# Altium schematic symbol library DiscreteSemiconductors.SchLib: 30 symbols
Pins are listed as number, name and electrical type; pins without a type are passive.

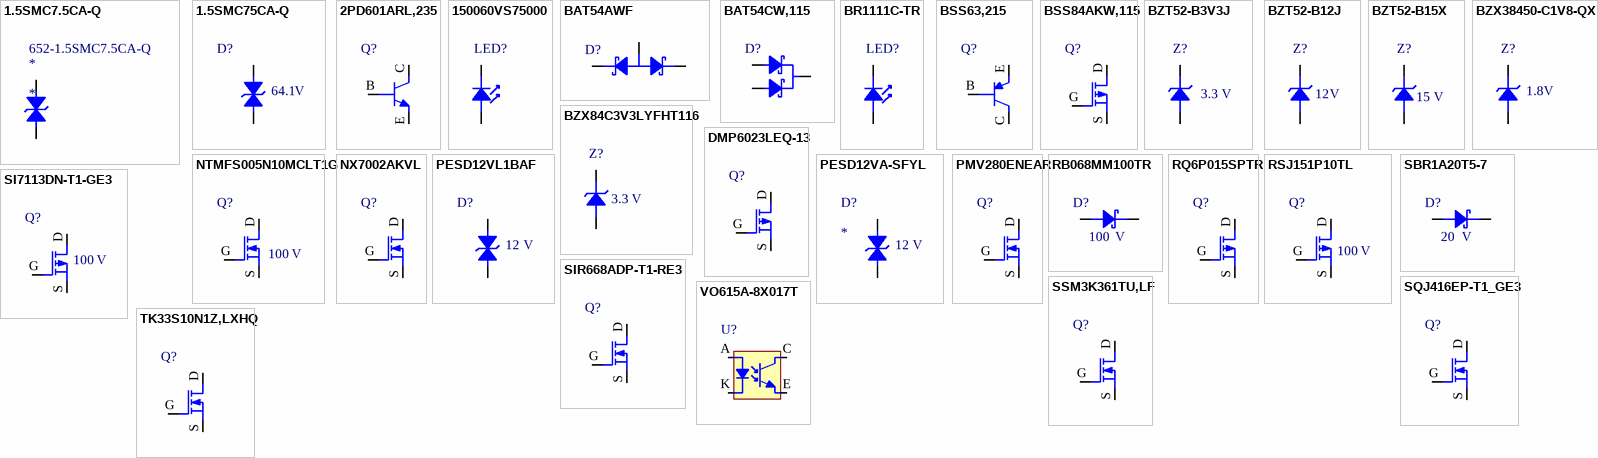
[diagram p0: symbols 1.5SMC7.5CA-Q to VO615A-8X017T]

## 1.5SMC7.5CA-Q
designator *  Supplier Part Number 1: 652-1.5SMC7.5CA-Q
Diode TVS Single Bi-Directional 6.4V 1.5kW 2-Pin DO-214AB T/R; Manufacturer: Bourns; Manufacturer Part Number: 1.5SMC7.5CA-Q; Supplier 1: Mouser; RoHS: Yes; Category: TVS Diodes; Stock 1: 11955; Pricing 1: 1=0.88000, 10=0.77700, 50=0.77700, 100=0.59600, 500=0.47100, 1000=0.37700, 3000=0.34100, 6000=0.31000, 9000=0.29900, 10000=0.29900 (USD)
pins: A, K

## 1.5SMC75CA-Q
designator D?  value 64.1  Units: V  (hidden comment: *)
Diode TVS Single Bi-Directional 64.1V 1.5kW 2-Pin DO-214AB T/R; Manufacturer: Bourns; Manufacturer Part Number: 1.5SMC75CA-Q; Supplier 1: Mouser; RoHS: Yes; Category: TVS Diodes; Stock 1: 11690; Pricing 1: 1=0.88000, 10=0.77700, 50=0.77700, 100=0.59600, 500=0.47100, 1000=0.37700, 3000=0.34100, 6000=0.31000, 9000=0.29900, 10000=0.29900 (USD)
footprint SMC-DO-214AB-BOURNS-BIDIRECTIONAL
pins: A1, A2

## 2PD601ARL,235
designator Q?  (value not drawn)
2PD601ARL; 2PD601ASL - 50 V, 100 mA NPN general-purpose transistors; Manufacturer: NXP Semiconductors; Manufacturer Part Number: 2PD601ARL,235; Max Power Dissipation: 250mW; Collector Emitter Voltage (VCEO): 250mV; Max Collector Current: 100mA; Collector Base Voltage (VCBO): 60V; Transition Frequency: 100MHz; Collector Emitter Breakdown Voltage: 50V; Emitter Base Voltage (VEBO): 6V; Value: 50; Supplier 1: Future Electronics; RoHS: Yes; Category: BJTs; Mount: Surface Mount; Case/Package: TO-236-3; Number of Pins: 3; Contact Plating: Tin; Min Operating Temperature: -55°C; Max Operating Temperature: 150°C; Packaging: Tape and Reel; Package Quantity: 10000; Polarity: NPN; Series: -; Collector-emitter Voltage-Max: 250mV; Radiation Hardening: No; RoHS Compliant: Yes; ComponentLink1URL: https://datasheet.ciiva.com/16285/2pd601axl-112998-16285410.pdf?src-supplier=Mouser; ComponentLink1Description: https://datasheet.ciiva.com/16285/2pd601axl-112998-16285410.pdf?src-supplier=Mouser; ComponentLink2URL: https://datasheet.ciiva.com/16614/2pd601axl-16614728.pdf?src-supplier=Avnet+Europe; ComponentLink2Description: https://datasheet.ciiva.com/16614/2pd601axl-16614728.pdf?src-supplier=Avnet+Europe; ComponentLink3URL: https://datasheet.ciiva.com/973/2pd601axl-973162.pdf?src-supplier=Digi-Key; ComponentLink3Description: https://datasheet.ciiva.com/973/2pd601axl-973162.pdf?src-supplier=Digi-Key; ComponentLink4URL: https://datasheet.ciiva.com/11204/2pd601axl-11204075.pdf?src-supplier=Avnet; ComponentLink4Description: https://datasheet.ciiva.com/11204/2pd601axl-11204075.pdf?src-supplier=Avnet; Supplier Part Number 1: 2PD601ARL,235; Units: V
footprint SOT95P230X110-3N-SOT23-3-NEXPERIA (SOT23, 3-Leads, Body 2.90x2.30mm, Pitch 0.95mm, IPC Medium Density); pin to pad B>1 C>3 E>2
pins: B, C, E

## 150060VS75000
designator LED?  (value not drawn)
Led, Green, 570 Nm, 2 V, 30 Ma, 40 Mcd Rohs Compliant: Yes; Manufacturer: Wurth Electronics; Manufacturer Part Number: 150060VS75000; Luminous Intensity: 40mcd; Viewing Angle: 140°; Forward Voltage: 2V; Wavelength: 570nm; Lens Style: Clear,Rectangular; Forward Current: 30mA; Test Current: 20mA; Supplier 1: RSComponents; RoHS: Yes; Category: LEDs; Stock 1: 2200; Pricing 1: 100=0.13300, 500=0.10300, 1000=0.09800, 2000=0.09200, 4000=0.08800 (USD); Mount: Surface Mount; Case/Package: 0603; Number of Pins: 2; Color: Green; Case Code (Metric): 1608; Case Code (Imperial): 0603; Min Operating Temperature: -40°C; Max Operating Temperature: 85°C; Package Quantity: 1; Packaging: Tape and Reel; Dominant Wavelength: 570nm; Length: 1.6mm; Width: 0.8mm; Height: 0.7mm; REACH SVHC: Unknown; RoHS Compliant: Yes; ComponentLink1URL: https://datasheet.ciiva.com/29562/150060vs75000-29562919.pdf?src-supplier=Digi-Key; ComponentLink1Description: https://datasheet.ciiva.com/29562/150060vs75000-29562919.pdf?src-supplier=Digi-Key
footprint DIOC1608X08N-0603-LED-WURTH (Chip Diode, 2-Leads, Body 1.60x0.80mm, IPC Medium Density. Based in 150060VS75000); pin to pad A>2 K>1
pins: A, K

## BAT54AWF
designator D?  (value not drawn)
BAT54AW/SOT323/SC-70; Manufacturer: Nexperia; Manufacturer Part Number: BAT54AWF; Value: 25; Units: V; Type: Diode; Supplier 1: Arrow Electronics; RoHS: Yes; Category: Diodes; Stock 1: 64149; Pricing 1: 1=0.08810, 10=0.04580, 25=0.04530, 100=0.02440, 250=0.02410, 500=0.02100, 1000=0.01600, 3000=0.01580, 6000=0.01560, 15000=0.01300, 30000=0.01290 (USD); RoHS Compliant: No; Package: SOT323
footprint SOT323-NEXPERIA (Based off BAT54AWF); pin to pad A>3 K1>1 K2>2
pins: A, K1, K2

## BAT54CW,115
designator D?  (value not drawn)
VR=30V IF=200mA 10pF P=200mW 2; Manufacturer: Nexperia; Manufacturer Part Number: BAT54CW,115; Value: 30; Units: V; Supplier 1: RSComponents; RoHS: Yes; Category: Rectifier Diodes; Stock 1: 16550; Pricing 1: 50=0.22500, 500=0.09000, 1000=0.06000, 2000=0.05600, 4000=0.04600 (USD); RoHS Compliant: Yes; ComponentLink1URL: http://www.farnell.com/datasheets/1679676.pdf?src-supplier=Farnell; ComponentLink1Description: http://www.farnell.com/datasheets/1679676.pdf?src-supplier=Farnell; ComponentLink2URL: https://assets.nexperia.com/documents/data-sheet/BAT54W_SER.pdf?src-supplier=Digi-Key; ComponentLink2Description: https://assets.nexperia.com/documents/data-sheet/BAT54W_SER.pdf?src-supplier=Digi-Key
footprint SOT323-NEXPERIA (Based off BAT54AWF); pin to pad A1>1 A2>2 K>3
pins: A1, A2, K

## BR1111C-TR
designator LED?  (value not drawn)
LED Low-Power Uni-Color Red 660nm 1.7V Automotive 2-Pin Chip 0603(1608Metric) T/R; Manufacturer: Stanley Electric; Manufacturer Part Number: BR1111C-TR; Lens Color: White; Shape: Rectangular; Number of Terminals/Pins: 2; Viewing Angle: 141°; Luminous Intensity: 11.7mcd; Forward Voltage: 2.3V; Lens Style: Flat,Colorless,MILKY WHITE; Forward Current: 25mA; Dominant Wavelength: 647nm; Test Current: 10mA; Lens Transparency: Diffused; Number of Elements: 1; Power Dissipation: 57.5mW; Reverse Voltage: 4V; Lens Size: 0.8mm; Supplier 1: Digi-Key; RoHS: Yes; Category: LEDs; Stock 1: 213150; Pricing 1: 1=0.39000, 10=0.25600, 100=0.17070, 500=0.11804, 1000=0.09837, 2000=0.08853 (USD); Mount: Surface Mount; Case/Package: SMD/SMT; Number of Pins: 2; Color: Red; Case Code (Metric): 1608; Case Code (Imperial): 0603; Min Operating Temperature: -30°C; Max Operating Temperature: 85°C; Packaging: Tape and Reel; Wavelength: 660nm; Package Quantity: 1; Series: 1111C; Length: 1.6mm; Width: 0.8mm; Height: 0.8mm; Depth: 0.8mm; Radiation Hardening: No; Lead Free: Lead Free; RoHS Compliant: Yes; ComponentLink1URL: https://datasheet.ciiva.com/19475/1845611-19475117.pdf?src-supplier=Jameco; ComponentLink1Description: https://datasheet.ciiva.com/19475/1845611-19475117.pdf?src-supplier=Jameco; ComponentLink2URL: https://datasheet.ciiva.com/15193/getdatasheetpartid-203327-15193245.pdf?src-supplier=Verical; ComponentLink2Description: https://datasheet.ciiva.com/15193/getdatasheetpartid-203327-15193245.pdf?src-supplier=Verical
footprint STANLEY-1608-LED
pins: A, K

## BSS63,215
designator Q?  (value not drawn)
TRANS PNP 100V 0.1A SOT23; Manufacturer: Nexperia; Manufacturer Part Number: BSS63,215; Value: 100; Units: V; Type: Transistor; Supplier 1: Avnet; RoHS: Yes; Category: BJTs; Stock 1: 64000; Pricing 1: 15528=0.02254, 16000=0.02206, 32000=0.02157, 78000=0.02109, 160000=0.02061, 780000=0.02013, 1600000=0.01964 (USD); RoHS Compliant: Yes; ComponentLink1URL: https://assets.nexperia.com/documents/data-sheet/BSS63.pdf?src-supplier=Digi-Key; ComponentLink1Description: https://assets.nexperia.com/documents/data-sheet/BSS63.pdf?src-supplier=Digi-Key
footprint SOT95P230X110-3N-SOT23-3-NEXPERIA (SOT23, 3-Leads, Body 2.90x2.30mm, Pitch 0.95mm, IPC Medium Density); pin to pad B>1 C>3 E>2
pins: B, C, E

## BSS84AKW,115
designator Q?  (value not drawn)
PMOS VDS=50V VGS=±20V ID=150mA P=260mW; Manufacturer: Nexperia; Manufacturer Part Number: BSS84AKW,115; Value: 50; Units: V; Type: MOSFET; Supplier 1: RSComponents; RoHS: Yes; Category: MOSFETs; Stock 1: 1300; Pricing 1: 100=0.15300, 300=0.14700, 600=0.11100, 1200=0.08400, 2400=0.07900 (USD); RoHS Compliant: Yes; ComponentLink1URL: http://www.farnell.com/datasheets/1443359.pdf?src-supplier=Farnell; ComponentLink1Description: http://www.farnell.com/datasheets/1443359.pdf?src-supplier=Farnell; ComponentLink2URL: https://assets.nexperia.com/documents/data-sheet/BSS84AKW.pdf?src-supplier=Digi-Key; ComponentLink2Description: https://assets.nexperia.com/documents/data-sheet/BSS84AKW.pdf?src-supplier=Digi-Key; ComponentLink3URL: http://www.farnell.com/datasheets/1443359.pdf?src-supplier=Newark; ComponentLink3Description: http://www.farnell.com/datasheets/1443359.pdf?src-supplier=Newark; Package: SOT323
footprint SOT323-NEXPERIA (Based off BAT54AWF); pin to pad D>3 G>1 S>2
pins: D, G, S

## BZT52-B3V3J
designator Z?  value 3.3  Units: V  (hidden comment: *)
BZT52-B3V3/SOD123/SOD2; Manufacturer: Nexperia; Manufacturer Part Number: BZT52-B3V3J; Supplier 1: Arrow Electronics; RoHS: No; Category: Zener Diodes; Stock 1: 30000; Pricing 1: 10000=0.01990, 20000=0.01870 (USD); Type: Diode
footprint BZT52-B3V3J
pins: A, K

## BZT52-B12J
designator Z?  value 12  Units: V  (hidden comment: *)
BZT52-B12/SOD123/SOD2; Manufacturer: Nexperia; Manufacturer Part Number: BZT52-B12J; Supplier 1: Digi-Key; RoHS: Yes; Category: Zener Diodes; Stock 1: 13784; Pricing 1: 1=0.24000, 10=0.19600, 100=0.10380, 500=0.06832, 1000=0.04645, 2000=0.04190, 5000=0.03643 (USD)
footprint BZT52-B3V3J
pins: A, K

## BZT52-B15X
designator Z?  value 15  Units: V  (hidden comment: *)
BZT52-B15/SOD123/SOD2; Manufacturer: Nexperia; Manufacturer Part Number: BZT52-B15X; Supplier 1: Newark; RoHS: No; Category: Zener Diodes; Stock 1: 5; Pricing 1: 5=0.27300, 10=0.18800, 25=0.15300, 50=0.11600, 100=0.08100, 250=0.07300, 500=0.06500, 1000=0.05700 (USD); RoHS Compliant: Yes
footprint BZT52-B3V3J
pins: A, K

## BZX84C3V3LYFHT116
designator Z?  value 3.3  Units: V  (hidden comment: *)
Diode Zener Single 3.3V 250mW 3-Pin SOT-23 Emboss T/R; Manufacturer: Rohm; Manufacturer Part Number: BZX84C3V3LYFHT116; Supplier 1: RSComponents; RoHS: No; Stock 1: 2900; Pricing 1: 100=0.10300, 200=0.10100, 300=0.09300, 500=0.09100, 1000=0.08900 (GBP); Type: Diode
footprint SOT23127P600-8N-SOT23-3-ROHM; pin to pad A>1 K>3
pins: A, K

## BZX38450-C1V8-QX
designator Z?  value 1.8  Units: V  (hidden comment: *)
Zener Diode Single 1.8V 5% 100Ohm 300mW 2-Pin SOD-323 T/R; Manufacturer: Nexperia; Manufacturer Part Number: BZX38450-C1V8-QX; Supplier 1: Arrow Electronics; RoHS: No; Stock 1: 36000; Pricing 1: 1=0.19230, 10=0.15670, 25=0.15500, 50=0.09310, 100=0.05620, 250=0.05560, 500=0.04560, 1000=0.03440, 3000=0.02920, 6000=0.02890, 15000=0.02630, 30000=0.02480 (USD); Category: Zener
footprint NEXPERIA-SC-76-SOD323
pins: A, K

## DMP6023LEQ-13
designator Q?  (value not drawn)
Enhancement Mode MOSFET P-Channel 60V 7A 3-Pin SOT-223 T/R; Manufacturer: Diodes; Manufacturer Part Number: DMP6023LEQ-13; Value: 60; Units: V; Supplier 1: Mouser; RoHS: Yes; Stock 1: 1514; Pricing 1: 1=0.95000, 10=0.85400, 50=0.85400, 100=0.66600, 1000=0.43400, 10000=0.37600 (USD); RoHS Compliant: Yes; Category: MOSFETs
footprint SOT230P700X165-4N-SOT223-DIODES-INC (SOT223, 4-Leads, Body 6.50x7.00mm (avg), Pitch 2.30mm, IPC Medium Density); pin to pad D>2+4 G>1 S>3
pins: D, G, S

## NTMFS005N10MCLT1G
designator Q?  value 100  Units: V  (hidden comment: *)
Transistor Mosfet N Channel 100V 105A 5-Pin DFN T/R; Manufacturer: ON Semiconductor; Manufacturer Part Number: NTMFS005N10MCLT1G; Supplier 1: Newark; RoHS: Yes; Category: MOSFETs; Stock 1: 385; Pricing 1: 5=1.80000, 10=1.63000, 100=1.27000 (USD)
footprint SO-8FL-onsemi; pin to pad D>5 G>4 S>1+2+3
pins: D, G, S

## NX7002AKVL
designator Q?  (value not drawn)
MOSFET NX7002AK/TO-236AB/REEL; Manufacturer: Nexperia; Manufacturer Part Number: NX7002AKVL; Value: 60; Units: V; Supplier 1: Avnet; RoHS: Yes; Category: MOSFETs; Stock 1: 30000; Pricing 1: 10000=0.03328, 20000=0.03370, 40000=0.03266, 60000=0.03162, 80000=0.03058, 100000=0.02954, 1000000=0.02850 (USD); RoHS Compliant: Yes; ComponentLink1URL: https://www.mouser.com/ds/2/302/NX7002AK-268849.pdf?src-supplier=Mouser; ComponentLink1Description: https://www.mouser.com/ds/2/302/NX7002AK-268849.pdf?src-supplier=Mouser; ComponentLink2URL: https://assets.nexperia.com/documents/data-sheet/NX7002AK.pdf?src-supplier=Digi-Key; ComponentLink2Description: https://assets.nexperia.com/documents/data-sheet/NX7002AK.pdf?src-supplier=Digi-Key
footprint SOT95P230X110-3N-SOT23-3-NEXPERIA (SOT23, 3-Leads, Body 2.90x2.30mm, Pitch 0.95mm, IPC Medium Density); pin to pad D>3 G>1 S>2
pins: D, G, S

## PESD12VA-SFYL
designator D?  value 12  Units: V
PESD12VA-SF - Ultra small 12 V ESD protection device; Manufacturer: Nexperia; Manufacturer Part Number: PESD12VA-SFYL; Supplier 1: Arrow Electronics; RoHS: Yes; Category: TVS Diodes; Stock 1: 558000; Pricing 1: 45000=0.05450, 72000=0.05400, 90000=0.05350, 99000=0.05290, 225000=0.05240, 450000=0.05190 (USD)
pins: A, K

## PESD12VL1BAF
designator D?  value 12  Units: V  (hidden comment: *)
PESD12VL1BA/SOD323/SOD2; Manufacturer: Nexperia; Manufacturer Part Number: PESD12VL1BAF; Supplier 1: Mouser; RoHS: Yes; Category: TVS Diodes; Stock 1: 44810; Pricing 1: 1=0.50000, 10=0.38200, 50=0.38200, 100=0.21700, 1000=0.11000, 10000=0.07600 (USD); RoHS Compliant: Yes
footprint NEXPERIA-SC-76-SOD323-BIDIRECTIONAL
pins: A1, A2

## PMV280ENEAR
designator Q?  (value not drawn)
PMV280ENEA/SOT23/TO-236AB; Manufacturer: Nexperia; Manufacturer Part Number: PMV280ENEAR; Value: 100; Units: V; Type: MOSFET; Supplier 1: RSComponents; RoHS: Yes; Category: MOSFETs; Stock 1: 6250; Pricing 1: 3000=0.15300, 6000=0.14900, 15000=0.14500, 30000=0.14200 (USD); RoHS Compliant: No; ComponentLink1URL: http://www.farnell.com/datasheets/2341452.pdf?src-supplier=Farnell; ComponentLink1Description: http://www.farnell.com/datasheets/2341452.pdf?src-supplier=Farnell; ComponentLink2URL: http://www.farnell.com/datasheets/2341452.pdf?src-supplier=Newark; ComponentLink2Description: http://www.farnell.com/datasheets/2341452.pdf?src-supplier=Newark; ComponentLink3URL: https://assets.nexperia.com/documents/data-sheet/PMV280ENEA.pdf?src-supplier=Digi-Key; ComponentLink3Description: https://assets.nexperia.com/documents/data-sheet/PMV280ENEA.pdf?src-supplier=Digi-Key
footprint SOT95P230X110-3N-SOT23-3-NEXPERIA (SOT23, 3-Leads, Body 2.90x2.30mm, Pitch 0.95mm, IPC Medium Density); pin to pad D>3 G>1 S>2
pins: D, G, S

## RB068MM100TR
designator D?  value 100  Units: V  (hidden comment: *)
Rectifier Diode Schottky Si 100V 2A 2-Pin PMDU T/R; Manufacturer: Rohm; Manufacturer Part Number: RB068MM100TR; Supplier 1: Newark; RoHS: Yes; Category: Schottky Diodes; Stock 1: 413; Pricing 1: 1=0.46300, 5=0.46300, 10=0.34500, 25=0.29600, 50=0.24900, 100=0.20000 (USD); RoHS Compliant: Yes
footprint SODFL350X90-2N-ROHM-SOD123L (SODFL, 2-Leads, Body 1.60x3.50mm, IPC Medium Density); pin to pad A>2 K>1
pins: A, K

## RQ6P015SPTR
designator Q?  (value not drawn)
Mosfet Transistor, P Channel, -1.5 A, -100 V, 0.35 Ohm, -10 V, -2.5 V Rohs Compliant: Yes; Manufacturer: Rohm; Manufacturer Part Number: RQ6P015SPTR; Resistance: 0.35R; Drain to Source Voltage (Vdss): 100V; Continuous Drain Current (ID): 1.5A; Rds On Max: 470mR; Input Capacitance: 950pF; Max Power Dissipation: 600mW; Threshold Voltage: -2.5V; Value: 100; Supplier 1: Newark; RoHS: Yes; Category: MOSFETs; Stock 1: 1344; Pricing 1: 1=0.82500, 5=0.82500, 10=0.67400, 100=0.41100, 500=0.38100, 1000=0.35000 (USD); Mount: Surface Mount; Number of Pins: 6; Max Operating Temperature: 150°C; Packaging: Tape and Reel; REACH SVHC: No SVHC; RoHS Compliant: Yes; ComponentLink1URL: http://www.farnell.com/datasheets/2295987.pdf?src-supplier=Farnell; ComponentLink1Description: http://www.farnell.com/datasheets/2295987.pdf?src-supplier=Farnell; ComponentLink2URL: http://www.farnell.com/datasheets/1943766.pdf?src-supplier=Element14; ComponentLink2Description: http://www.farnell.com/datasheets/1943766.pdf?src-supplier=Element14; ComponentLink3URL: https://www.rohm.com/datasheet/RQ6P015SP/rq6p015sp-e?src-supplier=Digi-Key; ComponentLink3Description: https://www.rohm.com/datasheet/RQ6P015SP/rq6p015sp-e?src-supplier=Digi-Key; ComponentLink4URL: http://rohmfs.rohm.com/en/techdata_basic/transistor/taping/TSMT6_TR_taping.pdf?src-supplier=Digi-Key; ComponentLink4Description: http://rohmfs.rohm.com/en/techdata_basic/transistor/taping/TSMT6_TR_taping.pdf?src-supplier=Digi-Key; ComponentLink5URL: http://www.rohm.com/web/global/datasheet/RQ6P015SP/rq6p015sp-e?src-supplier=Digi-Key; ComponentLink5Description: http://www.rohm.com/web/global/datasheet/RQ6P015SP/rq6p015sp-e?src-supplier=Digi-Key; ComponentLink6URL: http://rohmfs.rohm.com/en/products/databook/datasheet/discrete/transistor/mosfet/rq6p015sp.pdf?src-supplier=Avnet; ComponentLink6Description: http://rohmfs.rohm.com/en/products/databook/datasheet/discrete/transistor/mosfet/rq6p015sp.pdf?src-supplier=Avnet; Units: V
footprint SOP127P600-8N-SOT-457-6-ROHM; pin to pad D>1+2+5+6 G>3 S>4
pins: D, G, S

## RSJ151P10TL
designator Q?  value 100  Units: V  (hidden comment: *)
Trans MOSFET P-CH 100V 15A Automotive 3-Pin(2+Tab) LPTS T/R; Manufacturer: Rohm; Manufacturer Part Number: RSJ151P10TL; Rds On Max: 120mR; Input Capacitance: 3.8nF; Max Power Dissipation: 1.35W; Supplier 1: RSComponents; RoHS: Yes; Category: MOSFETs; Stock 1: 1; Pricing 1: 5=1.67000, 25=1.43100, 50=1.35600, 250=1.30700, 500=1.26700 (USD); Mount: Surface Mount; Case/Package: SC; Number of Pins: 83; Packaging: Cut Tape; Drain to Source Voltage (Vdss): 100V; Continuous Drain Current (ID): 15A; Lead Free: Lead Free; RoHS Compliant: Yes; ComponentLink1URL: http://www.farnell.com/datasheets/2197988.pdf?src-supplier=Farnell; ComponentLink1Description: http://www.farnell.com/datasheets/2197988.pdf?src-supplier=Farnell; ComponentLink2URL: http://rohmfs.rohm.com/en/products/databook/datasheet/discrete/transistor/mosfet/rsj151p10.pdf?src-supplier=Avnet; ComponentLink2Description: http://rohmfs.rohm.com/en/products/databook/datasheet/discrete/transistor/mosfet/rsj151p10.pdf?src-supplier=Avnet; ComponentLink3URL: http://rohmfs.rohm.com/en/techdata_basic/transistor/taping/LPTS_TL_taping.pdf?src-supplier=Digi-Key; ComponentLink3Description: http://rohmfs.rohm.com/en/techdata_basic/transistor/taping/LPTS_TL_taping.pdf?src-supplier=Digi-Key; ComponentLink4URL: http://rohmfs.rohm.com/en/products/databook/datasheet/discrete/transistor/mosfet/rsj151p10.pdf?src-supplier=Digi-Key; ComponentLink4Description: http://rohmfs.rohm.com/en/products/databook/datasheet/discrete/transistor/mosfet/rsj151p10.pdf?src-supplier=Digi-Key
pins: D, G, S

## SBR1A20T5-7
designator D?  value 20  Units: V  (hidden comment: *)
Rectifier Diode Super Barrier Rectifier 20V 1A 15ns 2-Pin SOD-523 T/R; Manufacturer: Diodes; Manufacturer Part Number: SBR1A20T5-7; Supplier 1: Avnet; RoHS: Yes; Category: Rectifier Diodes; Stock 1: 6000; Pricing 1: 3000=0.09054, 6000=0.08729, 12000=0.08467, 18000=0.08219, 24000=0.07910, 30000=0.07787, 300000=0.07663 (USD); Mount: Surface Mount; Packaging: Tape and Reel; Average Rectified Current: 1A; Reverse Recovery Time: 15ns; Max Reverse Voltage (DC): 20V; RoHS Compliant: Yes; ComponentLink1URL: https://www.diodes.com/assets/Datasheets/SBR1A20T5.pdf?src-supplier=Digi-Key; ComponentLink1Description: https://www.diodes.com/assets/Datasheets/SBR1A20T5.pdf?src-supplier=Digi-Key
footprint SODFL127P600-8N-SOD523-DIODES.INC (SBR1A20T5-7); pin to pad A>2 K>1
pins: A, K

## SI7113DN-T1-GE3
designator Q?  value 100  Units: V  (hidden comment: *)
Trans  Mosfet P-ch 100V 13.2A 1212-8; Manufacturer: Vishay Siliconix; Manufacturer Part Number: SI7113DN-T1-GE3; Rds On Max: 134mR; Input Capacitance: 1.48nF; Rise Time: 110ns; Continuous Drain Current (ID): 3.5A; Max Power Dissipation: 52W; Gate to Source Voltage (Vgs): 20V; Fall Time: 40ns; Turn-Off Delay Time: 51ns; Threshold Voltage: -1V; Turn-On Delay Time: 30ns; Number of Elements: 1; Power Dissipation: 3.7W; Element Configuration: Single; Drain to Source Breakdown Voltage: -100V; Polarity: P-CHANNEL; Supplier 1: Newark; RoHS: Yes; Category: MOSFETs; Stock 1: 1813; Pricing 1: 1=1.59000, 25=1.29000, 50=1.17000, 100=1.04000, 250=0.96800, 500=0.89600 (USD); Mount: Surface Mount; Number of Pins: 8; Contact Plating: Tin,Matte; Min Operating Temperature: -50°C; Max Operating Temperature: 150°C; Package Quantity: 1; Packaging: Tape and Reel; Drain to Source Voltage (Vdss): 100V; Drain to Source Resistance: 134mR; Number of Channels: 1; On-State Resistance: 134mR; Series: TrenchFET®; Drain-source On Resistance-Max: 134mR; Length: 3.3mm; Width: 3.3mm; Height: 1.04mm; Radiation Hardening: No; REACH SVHC: Unknown; RoHS Compliant: Yes; ComponentLink1URL: https://datasheet.ciiva.com/22652/1719641-22652384.pdf?src-supplier=Element14; ComponentLink1Description: https://datasheet.ciiva.com/22652/1719641-22652384.pdf?src-supplier=Element14; ComponentLink2URL: https://datasheet.ciiva.com/26792/si7113dn-t1-ge3-26792038.pdf?src-supplier=IIIC; ComponentLink2Description: https://datasheet.ciiva.com/26792/si7113dn-t1-ge3-26792038.pdf?src-supplier=IIIC; ComponentLink3URL: https://datasheet.ciiva.com/933/si7113dn-933476.pdf?src-supplier=Digi-Key; ComponentLink3Description: https://datasheet.ciiva.com/933/si7113dn-933476.pdf?src-supplier=Digi-Key; ComponentLink4URL: https://datasheet.ciiva.com/933/si7113dn-933477.pdf?src-supplier=Digi-Key; ComponentLink4Description: https://datasheet.ciiva.com/933/si7113dn-933477.pdf?src-supplier=Digi-Key; ComponentLink5URL: https://datasheet.ciiva.com/933/si7113dn-933478.pdf?src-supplier=Digi-Key; ComponentLink5Description: https://datasheet.ciiva.com/933/si7113dn-933478.pdf?src-supplier=Digi-Key
footprint VISHAY-PowerPAK 1212-8 (based off SQJ416EP-T1_GE3); pin to pad D>EP G>4 S>1+2+3
pins: D, G, S

## SIR668ADP-T1-RE3
designator Q?  (value not drawn)
Trans MOSFET N-CH 100V 22.9A 8-Pin PowerPAK SO EP T/R; Manufacturer: Vishay Siliconix; Manufacturer Part Number: SIR668ADP-T1-RE3; Continuous Drain Current (ID): 93.6A; Rds On Max: 4.8mR; Input Capacitance: 3.75nF; Max Power Dissipation: 104W; Value: 100; Units: V; Supplier 1: Newark; RoHS: Yes; Stock 1: 5647; Pricing 1: 1=2.43000, 10=2.03000, 25=1.88000, 50=1.74000, 100=1.56000, 500=1.43000, 1000=1.27000, 2500=1.15000 (USD); Mount: Surface Mount; Min Operating Temperature: -55°C; Max Operating Temperature: 150°C; Packaging: Cut Tape; Drain to Source Voltage (Vdss): 100V; ComponentLink1URL: http://www.vishay.com/docs/76067/sir668adp.pdf?src-supplier=Digi-Key; ComponentLink1Description: http://www.vishay.com/docs/76067/sir668adp.pdf?src-supplier=Digi-Key
footprint VISHAY-PowerPAK SO-8 (based off SIR668ADP-T1-RE3); pin to pad D>TAB G>4 S>1+2+3
pins: D, G, S

## SQJ416EP-T1_GE3
designator Q?  (value not drawn)
Trans MOSFET N-CH 100V 27A Automotive 5-Pin(4+Tab) PowerPAK SO T/R; Manufacturer: Vishay; Manufacturer Part Number: SQJ416EP-T1_GE3; Value: 100; Units: V; Supplier 1: Mouser; RoHS: Yes; Category: MOSFETs; Stock 1: 50526; Pricing 1: 1=0.93000, 10=0.83600, 50=0.83600, 100=0.65200, 1000=0.42500, 10000=0.39800 (USD)
footprint SOIC127P600-8N-VISHAY_PowerPAKSO-8L (based off SQJ416EP-T1_GE3); pin to pad D>TAB G>4 S>1+2+3
pins: D, G, S

## SSM3K361TU,LF
designator Q?  (value not drawn)
Trans MOSFET N-CH Si 100V 3.5A Automotive 3-Pin UFM T/R; Manufacturer: Toshiba; Manufacturer Part Number: SSM3K361TU,LF; Value: 100; Units: V; Supplier 1: Arrow Electronics; RoHS: No; Stock 1: 3000; Pricing 1: 1=0,45030, 10=0,37610, 25=0,37250, 100=0,25000, 250=0,24760, 500=0,23250, 1000=0,16810, 3000=0,15570 (USD)
footprint SOT65P210X75-3N-TOSHIBA_UFM3 (SOT23, 3-Leads, Body 2,00x2,10mm, Pitch 0,65mm, IPC Medium Density); pin to pad D>3 G>1 S>2
pins: D, G, S

## TK33S10N1Z,LXHQ
designator Q?  (value not drawn)
Mosfet N-ch 100V 33A Dpak; Manufacturer: Toshiba; Manufacturer Part Number: TK33S10N1Z,LXHQ; Value: 100; Units: V; Supplier 1: Mouser; RoHS: No; Stock 1: 1220; Category: MOSFETs; Pricing 1: 1=1.49000, 10=1.33000, 50=1.33000, 100=1.04000, 1000=0.67700, 10000=0.57300 (USD)
footprint DPAK230P950X250-3N-DPAK_TOSHIBA (D-PAK, 3-Pads, Body 5.95x6.71mm (max), IPC Medium Density); pin to pad D>2 G>1 S>3
pins: D, G, S

## VO615A-8X017T
designator U?  (value not drawn)
Optocoupler Collector-emitter breakdown voltage: 70 V Input forward current: 60 mA; Manufacturer: Vishay; Manufacturer Part Number: VO615A-8X017T; Number of Channels: 1; Output Voltage: 70V; Forward Voltage: 1.43V; Output Current per Channel: 50mA; Reverse Breakdown Voltage: 6V; Forward Current: 60mA; Collector Emitter Saturation Voltage: 300mV; Power Dissipation: 70mW; Current Transfer Ratio: 260%; Input Type: DC; Isolation Voltage: 5kV; Rise Time: 3us; Fall Time: 4.7us; Supplier 1: Newark; RoHS: Yes; Category: Optocouplers; Stock 1: 814; Pricing 1: 1=0.53800, 10=0.43600, 25=0.39000, 50=0.34400, 100=0.29800 (USD); Mount: Surface Mount,Through Hole; Case/Package: SMD/SMT; Number of Pins: 4; Min Operating Temperature: -55°C; Max Operating Temperature: 110°C; Packaging: Tape and Reel; Package Quantity: 1000; Collector Emitter Voltage (VCEO): 70V; Max Output Voltage: 70V; Number of Elements: 1; Collector-emitter Voltage-Max: 300mV; Max Power Dissipation: 70mW; Max Collector Current: 50mA; Max Input Current: 60mA; Input Current: 50mA; Collector Emitter Breakdown Voltage: 70V; Radiation Hardening: No; RoHS Compliant: Yes; REACH SVHC: Unknown; ComponentLink1URL: https://datasheet.ciiva.com/23616/485126-23616240.pdf?src-supplier=Newark; ComponentLink1Description: https://datasheet.ciiva.com/23616/485126-23616240.pdf?src-supplier=Newark; ComponentLink2URL: https://datasheet.ciiva.com/8086/vo615a-8086117.pdf?src-supplier=Avnet; ComponentLink2Description: https://datasheet.ciiva.com/8086/vo615a-8086117.pdf?src-supplier=Avnet; ComponentLink3URL: https://datasheet.ciiva.com/8040/485126-8040955.pdf?src-supplier=Element14; ComponentLink3Description: https://datasheet.ciiva.com/8040/485126-8040955.pdf?src-supplier=Element14; ComponentLink4URL: https://datasheet.ciiva.com/22713/485126-22713134.pdf?src-supplier=Element14; ComponentLink4Description: https://datasheet.ciiva.com/22713/485126-22713134.pdf?src-supplier=Element14
footprint SOIC254P1030X460-4N; pin to pad A>1 C>4 E>3 K>2
pins: A, C, E, K